# Altium integrated library Linear Technology Power Management Battery Management.IntLib: 626 symbols (part 49 of 56)
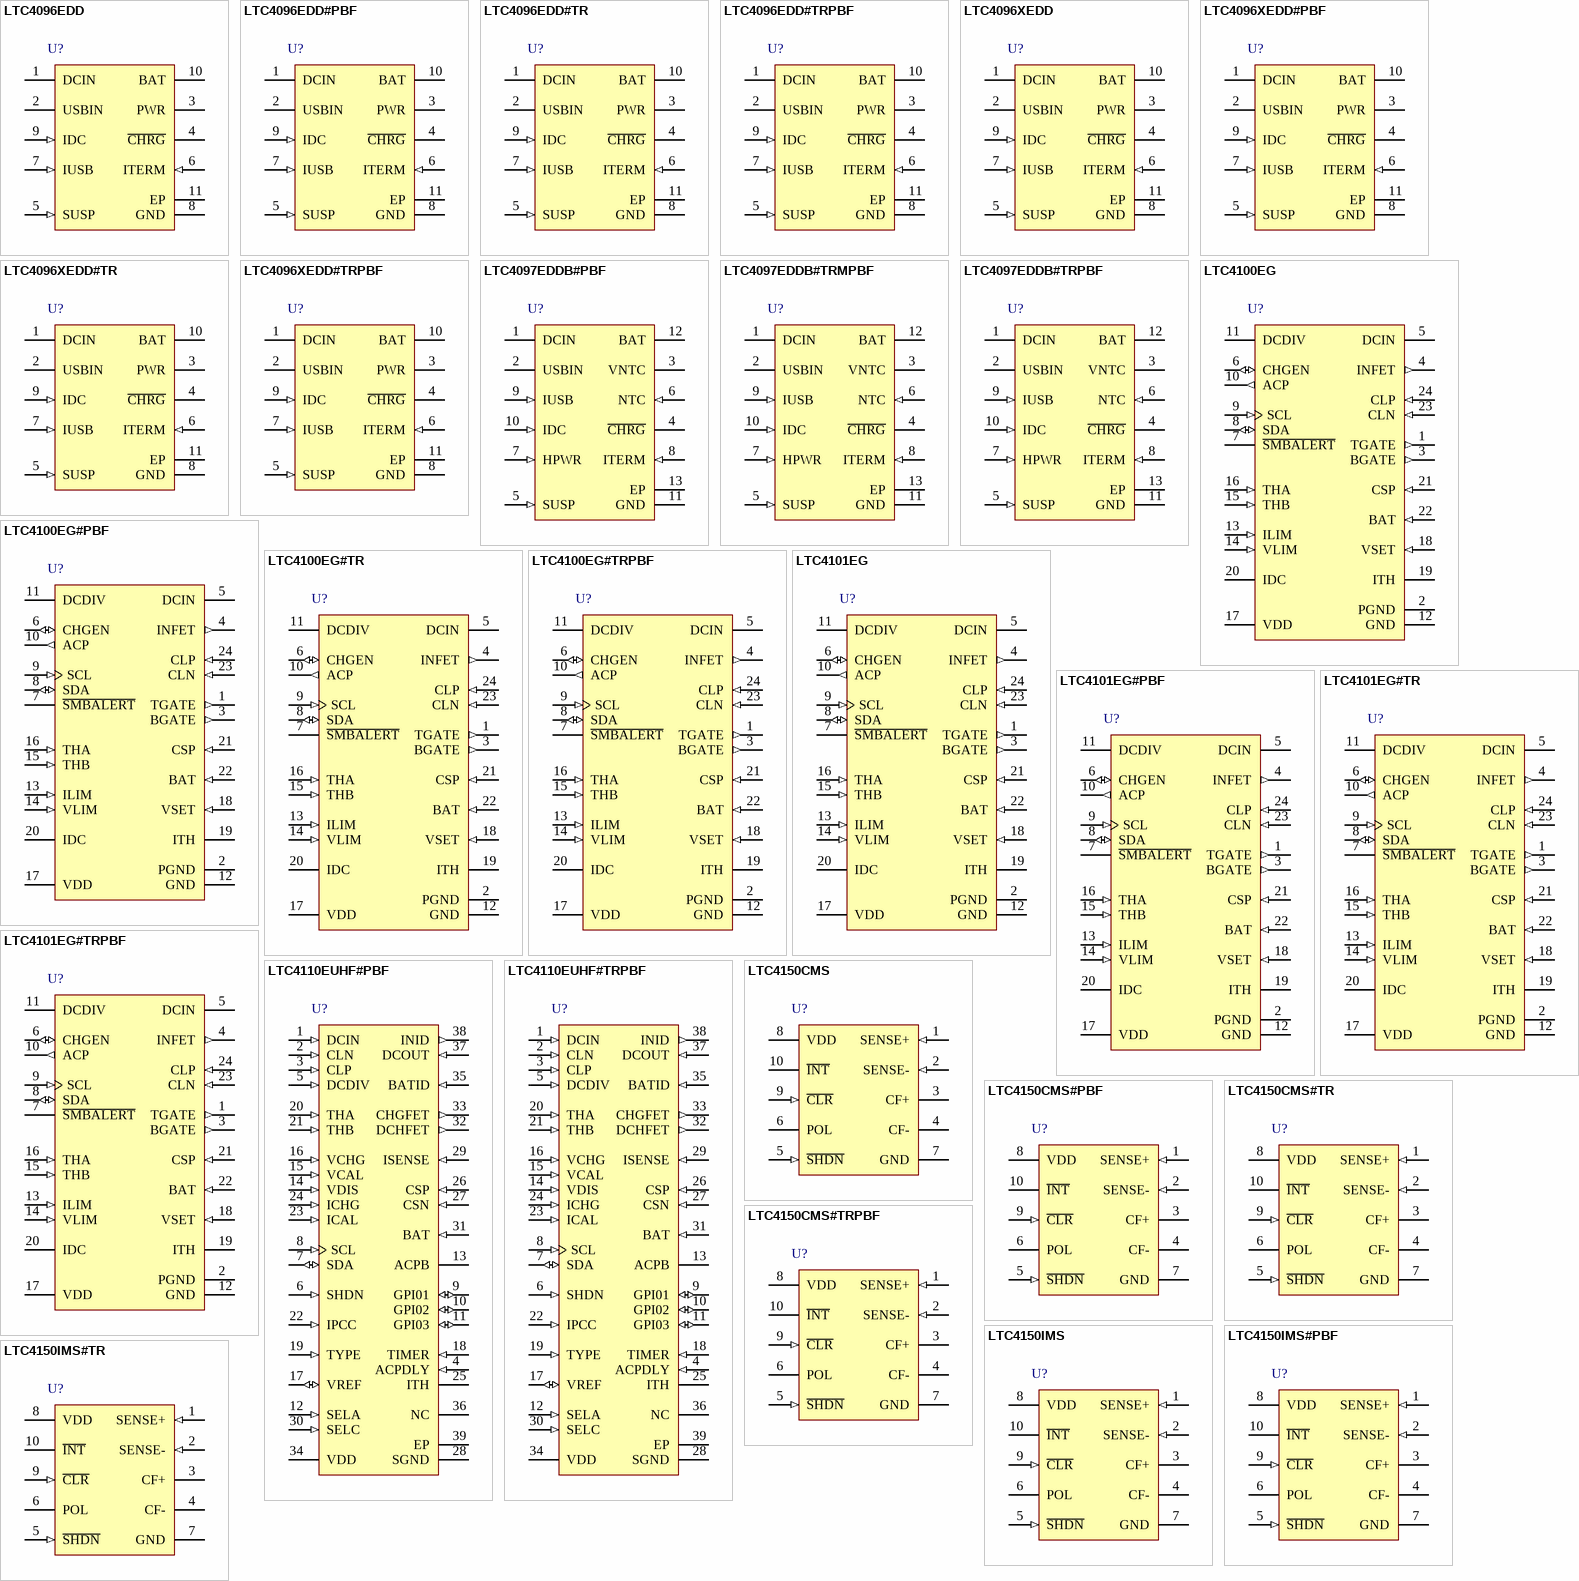
[diagram p70: symbols LTC4096EDD to LTC4150IMS#TR]

## LTC4110EUHF#TRPBF
designator U?
Battery Backup System Manager, 4.5 to 19 V Vin, 38-pin QFN (UHF-38), -40 to 85 degC, Pb-Free, Tape and Reel; Manufacturer: Linear Technology; PartNumber: LTC4110EUHF#TRPBF; Battery Chemistry: Li-Ion, Li-Polymer, Lead Acid, NiMH, NiCd; Charge Termination: C/10, Timer, Microcontroller; Float Voltage: Adj; Max Charge Current(A): 3; Number of Cells: 1-4 Li, up to 10 Ni, up to 6 SLA; Type of Charger: Switching; Vin Max(V): 19; Vin Min(V): 4.5; DatasheetVersion: Rev. B; PackageVersion: Rev. C, 06/2010; PackageReference: UHF-38; PackageDescription: 38-Pin Plastic QFN, Body 7 x 5 mm, Pitch 0.5 mm; Supplier 1: Digi-Key; Supplier Part Number 1: LTC4110EUHF#TRPBF-ND; Packing: Tape and Reel; RoHS: TRUE; Mounting Technology: Surface Mount; Code_JEDEC: MO-220; ComponentLink1Description: Manufacturer URL; ComponentLink1URL: http://www.linear.com/; ComponentLink2Description: Datasheet; ComponentLink2URL: http://cds.linear.com/docs/en/datasheet/4110fb.pdf; ComponentLink3Description: Package Specification; ComponentLink3URL: http://cds.linear.com/docs/en/packaging/QFN_38_05-08-1701.pdf
footprint LT-UHF-38_N (QFN, 38-Leads, Body 7.1x5.1mm, Pitch 0.5mm, Thermal Pad 3.15x5.15mm, IPC Medium Density)
footprint LT-UHF-38_L (QFN, 38-Leads, Body 7.1x5.1mm, Pitch 0.5mm, Thermal Pad 3.15x5.15mm, IPC High Density)
footprint LT-UHF-38_M (QFN, 38-Leads, Body 7.1x5.1mm, Pitch 0.5mm, Thermal Pad 3.15x5.15mm, IPC Low Density)
pins: 1 DCIN (in) "External DC Power Sense Input. Provides a control input and supply for the main supply ideal diode function.", 2 CLN (in) "Current Limit Sense Negative Input. See CLP pin.", 3 CLP (in) "Current Limit Sense Positive Input. This pin and the CLN pin form a differential input that senses voltage on an external resistor for reverse current entering the power source while in low loss calibration mode. Should the (See Datasheet)", 4 ACPDLY (in) "ACPb Delay Control Pin. A capacitor connected from ACPDLY to GND and a resistor from VREF to GND programs delay in the ACPb pin high-to-low transition. Open if minimum delay is desired.", 5 DCDIV (in) "AC Present Detection Input. Backup operation is invoked when the system power voltage, divided by an external resistor divider, falls below the threshold of this pin.", 6 SHDN (in) "Active High Shutdown/Reset Control Logic Input. Forces micropower shutdown mode if high when DCIN supply is removed. Forces all registers to reset if high when DCIN supply is present. Normally tied to ground. Internal pin (See Datasheet)", 7 SDA (io) "SMBus Bidirectional Data Signal. Connect to VDD when not in use.", 8 SCL (in) "SMBus Clock Signal Input From SMBus Host. Connect to VDD when not in use.", 9 GPI01 (io) "General Purpose I/O or Charge Status Pin. A logic-level I/O bit port that is configurable as a host-driven input/output port or as a battery charge status output (CHGb) with an open-drain N-MOSFET that is asserted low when (See Datasheet)", 10 GPI02 (io) "General Purpose I/O Pin. A logic-level I/O bit port that is configurable as a host-driven input/output port or as a battery undervoltage status output (BKUP_FLTb) with an open-drain N-MOSFET that is asserted low only while (See Datasheet)", 11 GPI03 (io) "General Purpose I/O Pin. A logic-level I/O bit port that is configurable as a host-driven input/output port or as a calibration complete status output (CAL_COMPLETEb) with an open-drain N-MOSFET that is asserted low when (See Datasheet)", 12 SELA (in) "SMBus Address Selection Input. Selects the LTC4110 SMBus address to facilitate redundant backup systems when standard batteries are used. Connect to GND for 12h, VDD for 28h and the VREF pin for 20h. When a smart battery is (See Datasheet)", 13 ACPB (oc) "AC Present Status Digital Output. Open-Drain N-MOSFET output is asserted low when the main supply is present as detected by the DCDIV pin and internal DCIN UVLO.", 14 VDIS (in) "Battery Discharge Voltage Limit During Backup Program Input. Battery threshold voltage at which backup mode will terminate by turning off the isolation P-MOSFET with the BATID pin. Adjustable from external resistor string (See Datasheet)", 15 VCAL (in) "Battery Voltage Limit During Calibration Program Input. Battery threshold voltage at which calibration will terminate. Adjustable from external resistor string biased from VREF pin. For default threshold connect to GND pin.", 16 VCHG (in) "Battery Float Voltage Program Input. Trims the float voltage during charging. Programmed from external resistor string biased from VREF pin. Connect to GND for default float voltage.", 17 VREF (io) "Voltage Reference Output and Timing Programming Input. Provides a typical virtual reference of 1.220V (VREF) for an external resistor divider tied between this pin and GND that programs the VCHG, VCAL and VDIS pin functions. (See Datasheet)", 18 TIMER (in) "Charge Timing Input. A capacitor connected between TIMER and GND along with the resistance connected from VREF to GND programs the charge time intervals.", 19 TYPE (in) "Refer to Table 8.", 20 THA (in) "Safety Signal Force/Sense Pin to Smart Battery and Force Pin to Lead Acid Battery Thermistor. See description of operation for more detail. The maximum allowed combined capacitance on THA, THB and Safety Signal is 1nF. For (See Datasheet)", 21 THB (in) "Safety Signal Force/Sense Pin to Smart Battery and Sense Pin to Lead Acid Battery Thermistor. See description of operation for more detail. The maximum allowed combined capacitance on THA, THB and Safety Signal is 1nF.", 22 IPCC (in) "Battery Preconditioning Charge Current Program Input. Programs the battery current during preconditioning or wakeup charging. Programmed from external resistor to GND.", 23 ICAL (in) "Battery Discharge Current During Calibration Program Input. Programs the constant discharge current at the battery during calibration. Programmed from external resistor to GND.", 24 ICHG (in) "Battery Current During Charge Program Input. Programs the battery current while constant-current bulk charging. Programmed from external resistor to GND.", 25 ITH "Control Signal of the Current Mode PWM. AC compensates control loop. Higher ITH voltage corresponds to higher charging current.", 26 CSP (in) "Current Sense Positive Input. This pin and the CSN pin measure voltage across the external current sense resistor to control battery current during charging and calibration.", 27 CSN (in) "Current Sense Negative Input. This pin and the CSP pin measure voltage across the external current sense resistor to control battery current during charging and calibration.", 28 SGND (power) "Signal Ground Reference Input. This pin should be Kelvin connected to the flyback current sense resistor and to the battery return.", 29 ISENSE (in) "Current Sense Input. Senses current in the flyback transformer by monitoring voltage across the external current sense resistor. This pin should be Kelvinconnected to the resistor.", 30 SELC (in) "Refer to Table 8.", 31 BAT (in) "Battery Voltage Sense Input. This pin is used to monitor the battery and control charging voltage through an internal resistor divider connected to this pin that is disconnected in shutdown mode. Also provides a control (See Datasheet)", 32 DCHFET (out) "Drives the Gate of an External N-MOSFET. Used to drive energy into the battery side of the high efficiency switch mode converter during low loss calibration discharge of the battery. Provides synchronous rectification during (See Datasheet)", 33 CHGFET (out) "Drives the Gate of an External N-MOSFET. Used to drive energy into the supply side of the high efficiency switch mode converter during battery charging. Provides synchronous rectification during low loss calibration mode.", 34 VDD (power) "Bypass Capacitor Connection for Internal VDD Regulator. Bypass at pin with 100nF low ESR capacitor to GND.", 35 BATID (in) "Drives the Gate of the Battery P-MOSFET Ideal Diode. Controls low loss ideal diode between the battery and backup load when in backup mode. When not in backup mode, the P-MOSFET is turned off to prevent battery power from (See Datasheet)", 36 NC "No Connect.", 37 DCOUT (in) "System Power Output Voltage Monitor Input. Provides a control input for supply input ideal diode and battery ideal diode functions. Also supplies power to the IC. Bypass at pin with 100nF low ESR capacitor to GND.", 38 INID (out) "Drives the Gate of the Supply Input P-MOSFET Ideal Diode. Controls low loss ideal diode between the supply input and backup load when not in backup mode.", 39 EP (power) "Ground. The Exposed Pad must be soldered to the PCB."

## LTC4150CMS
designator U?
Coulomb Counter / Battery Gas Gauge, 2.7 to 8.5 V Vin, 10-pin SOP (MS-10), 0 to 70 degC; Manufacturer: Linear Technology; PartNumber: LTC4150CMS; Battery Chemistry: Li-Ion, Li-Polymer, Lead Acid, NiMH, NiCd; Number of Cells: 1; Vin Max(V): 8.5; Vin Min(V): 2.7; DatasheetVersion: Rev. C; PackageVersion: Rev. E, 06/2010; PackageReference: MS-10; PackageDescription: 10-Pin Plastic MSOP, Body 3 x 3 mm, Pitch 0.5 mm; Supplier 1: Digi-Key; Supplier Part Number 1: LTC4150CMS-ND; RoHS: FALSE; Type of Charger: Gas Gauge; Mounting Technology: Surface Mount; ComponentLink1Description: Manufacturer URL; ComponentLink1URL: http://www.linear.com/; ComponentLink2Description: Datasheet; ComponentLink2URL: http://cds.linear.com/docs/en/datasheet/4150fc.pdf; ComponentLink3Description: Package Specification; ComponentLink3URL: http://cds.linear.com/docs/en/packaging/05081661_F_MS.pdf
footprint LT-MS-10_N (SOP, 10-Leads, Body 3.1x3.1mm, Pitch 0.5mm, IPC Medium Density)
footprint LT-MS-10_L (SOP, 10-Leads, Body 3.1x3.1mm, Pitch 0.5mm, IPC High Density)
footprint LT-MS-10_M (SOP, 10-Leads, Body 3.1x3.1mm, Pitch 0.5mm, IPC Low Density)
pins: 1 SENSE+ (in) "Positive Sense Input. This is the noninverting current sense input. Connect SENSE+ to the load and charger side of the sense resistor. Full-scale current sense input is 50mV. SENSE+ must be within 60mV of VDD for proper (See Datasheet)", 2 SENSE- (in) "Negative Sense Input. This is the inverting current sense input. Connect SENSE- to the positive battery terminal side of the sense resistor. Full-scale current sense input is 50mV. SENSE- must be within 60mV of VDD for (See Datasheet)", 3 CF+ "Filter Capacitor Positive Input. A capacitor connected between CF + and CF - filters and averages noise and fast battery current variations. A 4.7uF value is recommended. If filtering is not desired, leave CF + and CF - (See Datasheet)", 4 CF- "Filter Capacitor Negative Input. A capacitor connected between CF + and CF - filters and averages noise and fast battery current variations. A 4.7uF value is recommended. If filtering is not desired, leave CF + and CF - (See Datasheet)", 5 ~{SHDN} (in) "Shutdown Digital Input. When asserted low, S\H\D\N\ forces the LTC4150 into its low current consumption power-down mode and resets the part. In applications with logic supply VCC > VDD, a resistive divider must be used (See Datasheet)", 6 POL (hiz) "Battery Current Polarity Open-Drain Output. POL indicates the most recent battery current polarity when I\N\T\ is high. A low state indicates the current is fl owing out of the battery while high impedance means the current (See Datasheet)", 7 GND (power) "Ground. Connect directly to the negative battery terminal.", 8 VDD (power) "Positive Power Supply. Connect to the load and charger side of the sense resistor. SENSE+ also connects to VDD. VDD operating range is 2.7V to 8.5V. Bypass VDD with 4.7uF capacitor.", 9 ~{CLR} (in) "Clear Interrupt Digital Input. When asserted low for more than 20us, C\L\R\ resets I\N\T\ high. Charge counting is unaffected. I\N\T\ may be directly connected to C\L\R\. In this case the LTC4150 will capture each assertion (See Datasheet)", 10 ~{INT} (hiz) "Charge Count Interrupt Open-Drain Output. I\N\T\ latches low every 1/(VSENSE • GVF) seconds and is reset by a low pulse at C\L\R\. I\N\T\ is an open-drain output and can be pulled up to any logic supply of up to 9V. I(See Datasheet)"

## LTC4150CMS#PBF
designator U?
Coulomb Counter / Battery Gas Gauge, 2.7 to 8.5 V Vin, 10-pin SOP (MS-10), 0 to 70 degC, Pb-Free; Manufacturer: Linear Technology; PartNumber: LTC4150CMS#PBF; Battery Chemistry: Li-Ion, Li-Polymer, Lead Acid, NiMH, NiCd; Number of Cells: 1; Vin Max(V): 8.5; Vin Min(V): 2.7; DatasheetVersion: Rev. C; PackageVersion: Rev. E, 06/2010; PackageReference: MS-10; PackageDescription: 10-Pin Plastic MSOP, Body 3 x 3 mm, Pitch 0.5 mm; Supplier 1: Digi-Key; Supplier Part Number 1: LTC4150CMS#PBF-ND; Supplier 2: Farnell; Supplier Part Number 2: 1648053; Supplier 3: Newark; Supplier Part Number 3: 56M8728; RoHS: TRUE; Type of Charger: Gas Gauge; Mounting Technology: Surface Mount; ComponentLink1Description: Manufacturer URL; ComponentLink1URL: http://www.linear.com/; ComponentLink2Description: Datasheet; ComponentLink2URL: http://cds.linear.com/docs/en/datasheet/4150fc.pdf; ComponentLink3Description: Package Specification; ComponentLink3URL: http://cds.linear.com/docs/en/packaging/05081661_F_MS.pdf
footprint LT-MS-10_N (SOP, 10-Leads, Body 3.1x3.1mm, Pitch 0.5mm, IPC Medium Density)
footprint LT-MS-10_L (SOP, 10-Leads, Body 3.1x3.1mm, Pitch 0.5mm, IPC High Density)
footprint LT-MS-10_M (SOP, 10-Leads, Body 3.1x3.1mm, Pitch 0.5mm, IPC Low Density)
pins: 1 SENSE+ (in) "Positive Sense Input. This is the noninverting current sense input. Connect SENSE+ to the load and charger side of the sense resistor. Full-scale current sense input is 50mV. SENSE+ must be within 60mV of VDD for proper (See Datasheet)", 2 SENSE- (in) "Negative Sense Input. This is the inverting current sense input. Connect SENSE- to the positive battery terminal side of the sense resistor. Full-scale current sense input is 50mV. SENSE- must be within 60mV of VDD for (See Datasheet)", 3 CF+ "Filter Capacitor Positive Input. A capacitor connected between CF + and CF - filters and averages noise and fast battery current variations. A 4.7uF value is recommended. If filtering is not desired, leave CF + and CF - (See Datasheet)", 4 CF- "Filter Capacitor Negative Input. A capacitor connected between CF + and CF - filters and averages noise and fast battery current variations. A 4.7uF value is recommended. If filtering is not desired, leave CF + and CF - (See Datasheet)", 5 ~{SHDN} (in) "Shutdown Digital Input. When asserted low, S\H\D\N\ forces the LTC4150 into its low current consumption power-down mode and resets the part. In applications with logic supply VCC > VDD, a resistive divider must be used (See Datasheet)", 6 POL (hiz) "Battery Current Polarity Open-Drain Output. POL indicates the most recent battery current polarity when I\N\T\ is high. A low state indicates the current is fl owing out of the battery while high impedance means the current (See Datasheet)", 7 GND (power) "Ground. Connect directly to the negative battery terminal.", 8 VDD (power) "Positive Power Supply. Connect to the load and charger side of the sense resistor. SENSE+ also connects to VDD. VDD operating range is 2.7V to 8.5V. Bypass VDD with 4.7uF capacitor.", 9 ~{CLR} (in) "Clear Interrupt Digital Input. When asserted low for more than 20us, C\L\R\ resets I\N\T\ high. Charge counting is unaffected. I\N\T\ may be directly connected to C\L\R\. In this case the LTC4150 will capture each assertion (See Datasheet)", 10 ~{INT} (hiz) "Charge Count Interrupt Open-Drain Output. I\N\T\ latches low every 1/(VSENSE • GVF) seconds and is reset by a low pulse at C\L\R\. I\N\T\ is an open-drain output and can be pulled up to any logic supply of up to 9V. I(See Datasheet)"

## LTC4150CMS#TR
designator U?
Coulomb Counter / Battery Gas Gauge, 2.7 to 8.5 V Vin, 10-pin SOP (MS-10), 0 to 70 degC, Tape and Reel; Manufacturer: Linear Technology; PartNumber: LTC4150CMS#TR; Battery Chemistry: Li-Ion, Li-Polymer, Lead Acid, NiMH, NiCd; Number of Cells: 1; Vin Max(V): 8.5; Vin Min(V): 2.7; DatasheetVersion: Rev. C; PackageVersion: Rev. E, 06/2010; PackageReference: MS-10; PackageDescription: 10-Pin Plastic MSOP, Body 3 x 3 mm, Pitch 0.5 mm; Supplier 1: Digi-Key; Supplier Part Number 1: LTC4150CMS#TR-ND; Packing: Tape and Reel; RoHS: FALSE; Type of Charger: Gas Gauge; Mounting Technology: Surface Mount; ComponentLink1Description: Manufacturer URL; ComponentLink1URL: http://www.linear.com/; ComponentLink2Description: Datasheet; ComponentLink2URL: http://cds.linear.com/docs/en/datasheet/4150fc.pdf; ComponentLink3Description: Package Specification; ComponentLink3URL: http://cds.linear.com/docs/en/packaging/05081661_F_MS.pdf
footprint LT-MS-10_N (SOP, 10-Leads, Body 3.1x3.1mm, Pitch 0.5mm, IPC Medium Density)
footprint LT-MS-10_L (SOP, 10-Leads, Body 3.1x3.1mm, Pitch 0.5mm, IPC High Density)
footprint LT-MS-10_M (SOP, 10-Leads, Body 3.1x3.1mm, Pitch 0.5mm, IPC Low Density)
pins: 1 SENSE+ (in) "Positive Sense Input. This is the noninverting current sense input. Connect SENSE+ to the load and charger side of the sense resistor. Full-scale current sense input is 50mV. SENSE+ must be within 60mV of VDD for proper (See Datasheet)", 2 SENSE- (in) "Negative Sense Input. This is the inverting current sense input. Connect SENSE- to the positive battery terminal side of the sense resistor. Full-scale current sense input is 50mV. SENSE- must be within 60mV of VDD for (See Datasheet)", 3 CF+ "Filter Capacitor Positive Input. A capacitor connected between CF + and CF - filters and averages noise and fast battery current variations. A 4.7uF value is recommended. If filtering is not desired, leave CF + and CF - (See Datasheet)", 4 CF- "Filter Capacitor Negative Input. A capacitor connected between CF + and CF - filters and averages noise and fast battery current variations. A 4.7uF value is recommended. If filtering is not desired, leave CF + and CF - (See Datasheet)", 5 ~{SHDN} (in) "Shutdown Digital Input. When asserted low, S\H\D\N\ forces the LTC4150 into its low current consumption power-down mode and resets the part. In applications with logic supply VCC > VDD, a resistive divider must be used (See Datasheet)", 6 POL (hiz) "Battery Current Polarity Open-Drain Output. POL indicates the most recent battery current polarity when I\N\T\ is high. A low state indicates the current is fl owing out of the battery while high impedance means the current (See Datasheet)", 7 GND (power) "Ground. Connect directly to the negative battery terminal.", 8 VDD (power) "Positive Power Supply. Connect to the load and charger side of the sense resistor. SENSE+ also connects to VDD. VDD operating range is 2.7V to 8.5V. Bypass VDD with 4.7uF capacitor.", 9 ~{CLR} (in) "Clear Interrupt Digital Input. When asserted low for more than 20us, C\L\R\ resets I\N\T\ high. Charge counting is unaffected. I\N\T\ may be directly connected to C\L\R\. In this case the LTC4150 will capture each assertion (See Datasheet)", 10 ~{INT} (hiz) "Charge Count Interrupt Open-Drain Output. I\N\T\ latches low every 1/(VSENSE • GVF) seconds and is reset by a low pulse at C\L\R\. I\N\T\ is an open-drain output and can be pulled up to any logic supply of up to 9V. I(See Datasheet)"

## LTC4150CMS#TRPBF
designator U?
Coulomb Counter / Battery Gas Gauge, 2.7 to 8.5 V Vin, 10-pin SOP (MS-10), 0 to 70 degC, Pb-Free, Tape and Reel; Manufacturer: Linear Technology; PartNumber: LTC4150CMS#TRPBF; Battery Chemistry: Li-Ion, Li-Polymer, Lead Acid, NiMH, NiCd; Number of Cells: 1; Vin Max(V): 8.5; Vin Min(V): 2.7; DatasheetVersion: Rev. C; PackageVersion: Rev. E, 06/2010; PackageReference: MS-10; PackageDescription: 10-Pin Plastic MSOP, Body 3 x 3 mm, Pitch 0.5 mm; Supplier 1: Digi-Key; Supplier Part Number 1: LTC4150CMS#TRPBF-ND; Supplier 2: Newark; Supplier Part Number 2: 56M8730; Packing: Tape and Reel; RoHS: TRUE; Type of Charger: Gas Gauge; Mounting Technology: Surface Mount; ComponentLink1Description: Manufacturer URL; ComponentLink1URL: http://www.linear.com/; ComponentLink2Description: Datasheet; ComponentLink2URL: http://cds.linear.com/docs/en/datasheet/4150fc.pdf; ComponentLink3Description: Package Specification; ComponentLink3URL: http://cds.linear.com/docs/en/packaging/05081661_F_MS.pdf
footprint LT-MS-10_N (SOP, 10-Leads, Body 3.1x3.1mm, Pitch 0.5mm, IPC Medium Density)
footprint LT-MS-10_L (SOP, 10-Leads, Body 3.1x3.1mm, Pitch 0.5mm, IPC High Density)
footprint LT-MS-10_M (SOP, 10-Leads, Body 3.1x3.1mm, Pitch 0.5mm, IPC Low Density)
pins: 1 SENSE+ (in) "Positive Sense Input. This is the noninverting current sense input. Connect SENSE+ to the load and charger side of the sense resistor. Full-scale current sense input is 50mV. SENSE+ must be within 60mV of VDD for proper (See Datasheet)", 2 SENSE- (in) "Negative Sense Input. This is the inverting current sense input. Connect SENSE- to the positive battery terminal side of the sense resistor. Full-scale current sense input is 50mV. SENSE- must be within 60mV of VDD for (See Datasheet)", 3 CF+ "Filter Capacitor Positive Input. A capacitor connected between CF + and CF - filters and averages noise and fast battery current variations. A 4.7uF value is recommended. If filtering is not desired, leave CF + and CF - (See Datasheet)", 4 CF- "Filter Capacitor Negative Input. A capacitor connected between CF + and CF - filters and averages noise and fast battery current variations. A 4.7uF value is recommended. If filtering is not desired, leave CF + and CF - (See Datasheet)", 5 ~{SHDN} (in) "Shutdown Digital Input. When asserted low, S\H\D\N\ forces the LTC4150 into its low current consumption power-down mode and resets the part. In applications with logic supply VCC > VDD, a resistive divider must be used (See Datasheet)", 6 POL (hiz) "Battery Current Polarity Open-Drain Output. POL indicates the most recent battery current polarity when I\N\T\ is high. A low state indicates the current is fl owing out of the battery while high impedance means the current (See Datasheet)", 7 GND (power) "Ground. Connect directly to the negative battery terminal.", 8 VDD (power) "Positive Power Supply. Connect to the load and charger side of the sense resistor. SENSE+ also connects to VDD. VDD operating range is 2.7V to 8.5V. Bypass VDD with 4.7uF capacitor.", 9 ~{CLR} (in) "Clear Interrupt Digital Input. When asserted low for more than 20us, C\L\R\ resets I\N\T\ high. Charge counting is unaffected. I\N\T\ may be directly connected to C\L\R\. In this case the LTC4150 will capture each assertion (See Datasheet)", 10 ~{INT} (hiz) "Charge Count Interrupt Open-Drain Output. I\N\T\ latches low every 1/(VSENSE • GVF) seconds and is reset by a low pulse at C\L\R\. I\N\T\ is an open-drain output and can be pulled up to any logic supply of up to 9V. I(See Datasheet)"

## LTC4150IMS
designator U?
Coulomb Counter / Battery Gas Gauge, 2.7 to 8.5 V Vin, 10-pin SOP (MS-10), -40 to 85 degC; Manufacturer: Linear Technology; PartNumber: LTC4150IMS; Battery Chemistry: Li-Ion, Li-Polymer, Lead Acid, NiMH, NiCd; Number of Cells: 1; Vin Max(V): 8.5; Vin Min(V): 2.7; DatasheetVersion: Rev. C; PackageVersion: Rev. E, 06/2010; PackageReference: MS-10; PackageDescription: 10-Pin Plastic MSOP, Body 3 x 3 mm, Pitch 0.5 mm; Supplier 1: Digi-Key; Supplier Part Number 1: LTC4150IMS-ND; RoHS: FALSE; Type of Charger: Gas Gauge; Mounting Technology: Surface Mount; ComponentLink1Description: Manufacturer URL; ComponentLink1URL: http://www.linear.com/; ComponentLink2Description: Datasheet; ComponentLink2URL: http://cds.linear.com/docs/en/datasheet/4150fc.pdf; ComponentLink3Description: Package Specification; ComponentLink3URL: http://cds.linear.com/docs/en/packaging/05081661_F_MS.pdf
footprint LT-MS-10_N (SOP, 10-Leads, Body 3.1x3.1mm, Pitch 0.5mm, IPC Medium Density)
footprint LT-MS-10_L (SOP, 10-Leads, Body 3.1x3.1mm, Pitch 0.5mm, IPC High Density)
footprint LT-MS-10_M (SOP, 10-Leads, Body 3.1x3.1mm, Pitch 0.5mm, IPC Low Density)
pins: 1 SENSE+ (in) "Positive Sense Input. This is the noninverting current sense input. Connect SENSE+ to the load and charger side of the sense resistor. Full-scale current sense input is 50mV. SENSE+ must be within 60mV of VDD for proper (See Datasheet)", 2 SENSE- (in) "Negative Sense Input. This is the inverting current sense input. Connect SENSE- to the positive battery terminal side of the sense resistor. Full-scale current sense input is 50mV. SENSE- must be within 60mV of VDD for (See Datasheet)", 3 CF+ "Filter Capacitor Positive Input. A capacitor connected between CF + and CF - filters and averages noise and fast battery current variations. A 4.7uF value is recommended. If filtering is not desired, leave CF + and CF - (See Datasheet)", 4 CF- "Filter Capacitor Negative Input. A capacitor connected between CF + and CF - filters and averages noise and fast battery current variations. A 4.7uF value is recommended. If filtering is not desired, leave CF + and CF - (See Datasheet)", 5 ~{SHDN} (in) "Shutdown Digital Input. When asserted low, S\H\D\N\ forces the LTC4150 into its low current consumption power-down mode and resets the part. In applications with logic supply VCC > VDD, a resistive divider must be used (See Datasheet)", 6 POL (hiz) "Battery Current Polarity Open-Drain Output. POL indicates the most recent battery current polarity when I\N\T\ is high. A low state indicates the current is fl owing out of the battery while high impedance means the current (See Datasheet)", 7 GND (power) "Ground. Connect directly to the negative battery terminal.", 8 VDD (power) "Positive Power Supply. Connect to the load and charger side of the sense resistor. SENSE+ also connects to VDD. VDD operating range is 2.7V to 8.5V. Bypass VDD with 4.7uF capacitor.", 9 ~{CLR} (in) "Clear Interrupt Digital Input. When asserted low for more than 20us, C\L\R\ resets I\N\T\ high. Charge counting is unaffected. I\N\T\ may be directly connected to C\L\R\. In this case the LTC4150 will capture each assertion (See Datasheet)", 10 ~{INT} (hiz) "Charge Count Interrupt Open-Drain Output. I\N\T\ latches low every 1/(VSENSE • GVF) seconds and is reset by a low pulse at C\L\R\. I\N\T\ is an open-drain output and can be pulled up to any logic supply of up to 9V. I(See Datasheet)"

## LTC4150IMS#PBF
designator U?
Coulomb Counter / Battery Gas Gauge, 2.7 to 8.5 V Vin, 10-pin SOP (MS-10), -40 to 85 degC, Pb-Free; Manufacturer: Linear Technology; PartNumber: LTC4150IMS#PBF; Battery Chemistry: Li-Ion, Li-Polymer, Lead Acid, NiMH, NiCd; Number of Cells: 1; Vin Max(V): 8.5; Vin Min(V): 2.7; DatasheetVersion: Rev. C; PackageVersion: Rev. E, 06/2010; PackageReference: MS-10; PackageDescription: 10-Pin Plastic MSOP, Body 3 x 3 mm, Pitch 0.5 mm; Supplier 1: Digi-Key; Supplier Part Number 1: LTC4150IMS#PBF-ND; Supplier 2: Newark; Supplier Part Number 2: 56M8732; RoHS: TRUE; Type of Charger: Gas Gauge; Mounting Technology: Surface Mount; ComponentLink1Description: Manufacturer URL; ComponentLink1URL: http://www.linear.com/; ComponentLink2Description: Datasheet; ComponentLink2URL: http://cds.linear.com/docs/en/datasheet/4150fc.pdf; ComponentLink3Description: Package Specification; ComponentLink3URL: http://cds.linear.com/docs/en/packaging/05081661_F_MS.pdf
footprint LT-MS-10_N (SOP, 10-Leads, Body 3.1x3.1mm, Pitch 0.5mm, IPC Medium Density)
footprint LT-MS-10_L (SOP, 10-Leads, Body 3.1x3.1mm, Pitch 0.5mm, IPC High Density)
footprint LT-MS-10_M (SOP, 10-Leads, Body 3.1x3.1mm, Pitch 0.5mm, IPC Low Density)
pins: 1 SENSE+ (in) "Positive Sense Input. This is the noninverting current sense input. Connect SENSE+ to the load and charger side of the sense resistor. Full-scale current sense input is 50mV. SENSE+ must be within 60mV of VDD for proper (See Datasheet)", 2 SENSE- (in) "Negative Sense Input. This is the inverting current sense input. Connect SENSE- to the positive battery terminal side of the sense resistor. Full-scale current sense input is 50mV. SENSE- must be within 60mV of VDD for (See Datasheet)", 3 CF+ "Filter Capacitor Positive Input. A capacitor connected between CF + and CF - filters and averages noise and fast battery current variations. A 4.7uF value is recommended. If filtering is not desired, leave CF + and CF - (See Datasheet)", 4 CF- "Filter Capacitor Negative Input. A capacitor connected between CF + and CF - filters and averages noise and fast battery current variations. A 4.7uF value is recommended. If filtering is not desired, leave CF + and CF - (See Datasheet)", 5 ~{SHDN} (in) "Shutdown Digital Input. When asserted low, S\H\D\N\ forces the LTC4150 into its low current consumption power-down mode and resets the part. In applications with logic supply VCC > VDD, a resistive divider must be used (See Datasheet)", 6 POL (hiz) "Battery Current Polarity Open-Drain Output. POL indicates the most recent battery current polarity when I\N\T\ is high. A low state indicates the current is fl owing out of the battery while high impedance means the current (See Datasheet)", 7 GND (power) "Ground. Connect directly to the negative battery terminal.", 8 VDD (power) "Positive Power Supply. Connect to the load and charger side of the sense resistor. SENSE+ also connects to VDD. VDD operating range is 2.7V to 8.5V. Bypass VDD with 4.7uF capacitor.", 9 ~{CLR} (in) "Clear Interrupt Digital Input. When asserted low for more than 20us, C\L\R\ resets I\N\T\ high. Charge counting is unaffected. I\N\T\ may be directly connected to C\L\R\. In this case the LTC4150 will capture each assertion (See Datasheet)", 10 ~{INT} (hiz) "Charge Count Interrupt Open-Drain Output. I\N\T\ latches low every 1/(VSENSE • GVF) seconds and is reset by a low pulse at C\L\R\. I\N\T\ is an open-drain output and can be pulled up to any logic supply of up to 9V. I(See Datasheet)"

## LTC4150IMS#TR
designator U?
Coulomb Counter / Battery Gas Gauge, 2.7 to 8.5 V Vin, 10-pin SOP (MS-10), -40 to 85 degC, Tape and Reel; Manufacturer: Linear Technology; PartNumber: LTC4150IMS#TR; Battery Chemistry: Li-Ion, Li-Polymer, Lead Acid, NiMH, NiCd; Number of Cells: 1; Vin Max(V): 8.5; Vin Min(V): 2.7; DatasheetVersion: Rev. C; PackageVersion: Rev. E, 06/2010; PackageReference: MS-10; PackageDescription: 10-Pin Plastic MSOP, Body 3 x 3 mm, Pitch 0.5 mm; Supplier 1: Digi-Key; Supplier Part Number 1: LTC4150IMS#TR-ND; Packing: Tape and Reel; RoHS: FALSE; Type of Charger: Gas Gauge; Mounting Technology: Surface Mount; ComponentLink1Description: Manufacturer URL; ComponentLink1URL: http://www.linear.com/; ComponentLink2Description: Datasheet; ComponentLink2URL: http://cds.linear.com/docs/en/datasheet/4150fc.pdf; ComponentLink3Description: Package Specification; ComponentLink3URL: http://cds.linear.com/docs/en/packaging/05081661_F_MS.pdf
footprint LT-MS-10_N (SOP, 10-Leads, Body 3.1x3.1mm, Pitch 0.5mm, IPC Medium Density)
footprint LT-MS-10_L (SOP, 10-Leads, Body 3.1x3.1mm, Pitch 0.5mm, IPC High Density)
footprint LT-MS-10_M (SOP, 10-Leads, Body 3.1x3.1mm, Pitch 0.5mm, IPC Low Density)
pins: 1 SENSE+ (in) "Positive Sense Input. This is the noninverting current sense input. Connect SENSE+ to the load and charger side of the sense resistor. Full-scale current sense input is 50mV. SENSE+ must be within 60mV of VDD for proper (See Datasheet)", 2 SENSE- (in) "Negative Sense Input. This is the inverting current sense input. Connect SENSE- to the positive battery terminal side of the sense resistor. Full-scale current sense input is 50mV. SENSE- must be within 60mV of VDD for (See Datasheet)", 3 CF+ "Filter Capacitor Positive Input. A capacitor connected between CF + and CF - filters and averages noise and fast battery current variations. A 4.7uF value is recommended. If filtering is not desired, leave CF + and CF - (See Datasheet)", 4 CF- "Filter Capacitor Negative Input. A capacitor connected between CF + and CF - filters and averages noise and fast battery current variations. A 4.7uF value is recommended. If filtering is not desired, leave CF + and CF - (See Datasheet)", 5 ~{SHDN} (in) "Shutdown Digital Input. When asserted low, S\H\D\N\ forces the LTC4150 into its low current consumption power-down mode and resets the part. In applications with logic supply VCC > VDD, a resistive divider must be used (See Datasheet)", 6 POL (hiz) "Battery Current Polarity Open-Drain Output. POL indicates the most recent battery current polarity when I\N\T\ is high. A low state indicates the current is fl owing out of the battery while high impedance means the current (See Datasheet)", 7 GND (power) "Ground. Connect directly to the negative battery terminal.", 8 VDD (power) "Positive Power Supply. Connect to the load and charger side of the sense resistor. SENSE+ also connects to VDD. VDD operating range is 2.7V to 8.5V. Bypass VDD with 4.7uF capacitor.", 9 ~{CLR} (in) "Clear Interrupt Digital Input. When asserted low for more than 20us, C\L\R\ resets I\N\T\ high. Charge counting is unaffected. I\N\T\ may be directly connected to C\L\R\. In this case the LTC4150 will capture each assertion (See Datasheet)", 10 ~{INT} (hiz) "Charge Count Interrupt Open-Drain Output. I\N\T\ latches low every 1/(VSENSE • GVF) seconds and is reset by a low pulse at C\L\R\. I\N\T\ is an open-drain output and can be pulled up to any logic supply of up to 9V. I(See Datasheet)"

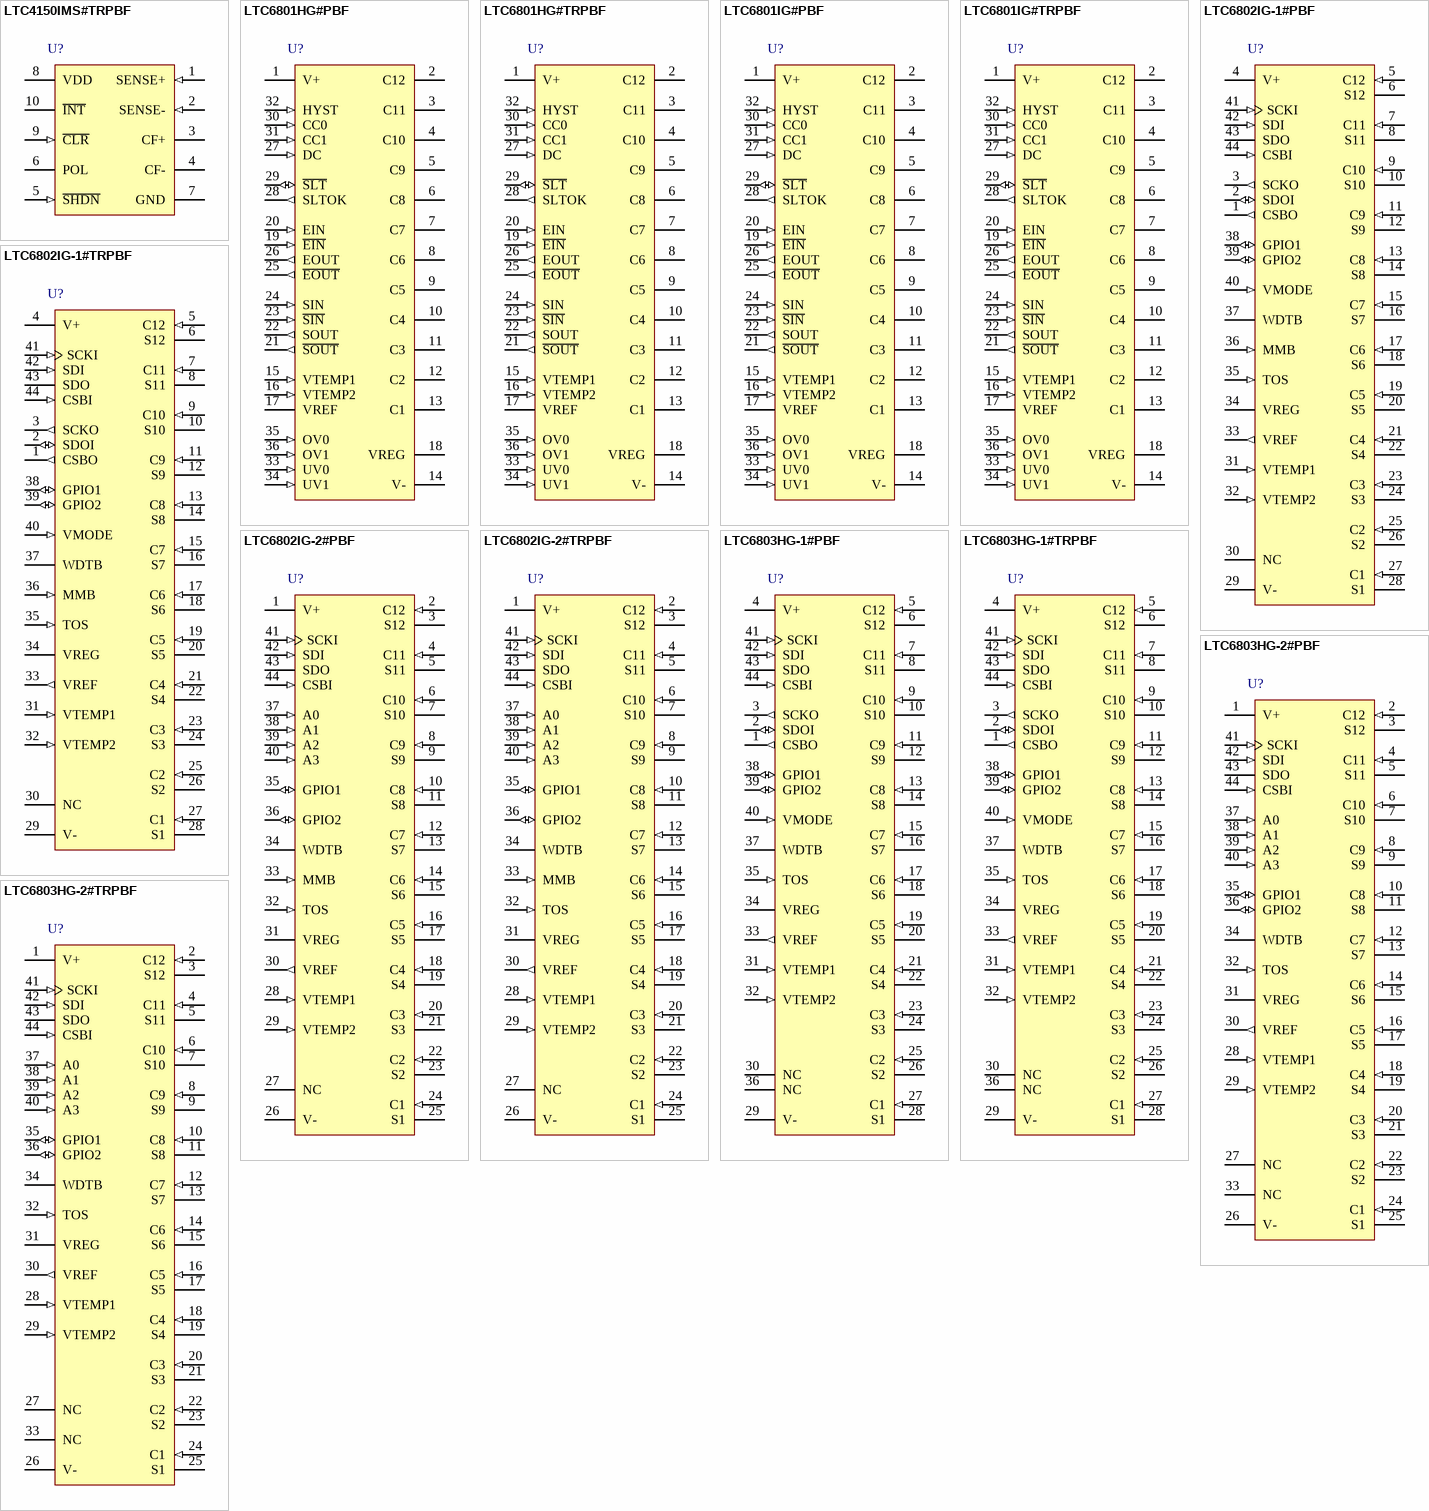
[diagram p20: symbols LTC4150IMS#TRPBF to LTC6803HG-2#TRPBF]

## LTC4150IMS#TRPBF
designator U?
Coulomb Counter / Battery Gas Gauge, 2.7 to 8.5 V Vin, 10-pin SOP (MS-10), -40 to 85 degC, Pb-Free, Tape and Reel; Manufacturer: Linear Technology; PartNumber: LTC4150IMS#TRPBF; Battery Chemistry: Li-Ion, Li-Polymer, Lead Acid, NiMH, NiCd; Number of Cells: 1; Vin Max(V): 8.5; Vin Min(V): 2.7; DatasheetVersion: Rev. C; PackageVersion: Rev. E, 06/2010; PackageReference: MS-10; PackageDescription: 10-Pin Plastic MSOP, Body 3 x 3 mm, Pitch 0.5 mm; Supplier 1: Digi-Key; Supplier Part Number 1: LTC4150IMS#TRPBF-ND; Packing: Tape and Reel; RoHS: TRUE; Type of Charger: Gas Gauge; Mounting Technology: Surface Mount; ComponentLink1Description: Manufacturer URL; ComponentLink1URL: http://www.linear.com/; ComponentLink2Description: Datasheet; ComponentLink2URL: http://cds.linear.com/docs/en/datasheet/4150fc.pdf; ComponentLink3Description: Package Specification; ComponentLink3URL: http://cds.linear.com/docs/en/packaging/05081661_F_MS.pdf
footprint LT-MS-10_N (SOP, 10-Leads, Body 3.1x3.1mm, Pitch 0.5mm, IPC Medium Density)
footprint LT-MS-10_L (SOP, 10-Leads, Body 3.1x3.1mm, Pitch 0.5mm, IPC High Density)
footprint LT-MS-10_M (SOP, 10-Leads, Body 3.1x3.1mm, Pitch 0.5mm, IPC Low Density)
pins: 1 SENSE+ (in) "Positive Sense Input. This is the noninverting current sense input. Connect SENSE+ to the load and charger side of the sense resistor. Full-scale current sense input is 50mV. SENSE+ must be within 60mV of VDD for proper (See Datasheet)", 2 SENSE- (in) "Negative Sense Input. This is the inverting current sense input. Connect SENSE- to the positive battery terminal side of the sense resistor. Full-scale current sense input is 50mV. SENSE- must be within 60mV of VDD for (See Datasheet)", 3 CF+ "Filter Capacitor Positive Input. A capacitor connected between CF + and CF - filters and averages noise and fast battery current variations. A 4.7uF value is recommended. If filtering is not desired, leave CF + and CF - (See Datasheet)", 4 CF- "Filter Capacitor Negative Input. A capacitor connected between CF + and CF - filters and averages noise and fast battery current variations. A 4.7uF value is recommended. If filtering is not desired, leave CF + and CF - (See Datasheet)", 5 ~{SHDN} (in) "Shutdown Digital Input. When asserted low, S\H\D\N\ forces the LTC4150 into its low current consumption power-down mode and resets the part. In applications with logic supply VCC > VDD, a resistive divider must be used (See Datasheet)", 6 POL (hiz) "Battery Current Polarity Open-Drain Output. POL indicates the most recent battery current polarity when I\N\T\ is high. A low state indicates the current is fl owing out of the battery while high impedance means the current (See Datasheet)", 7 GND (power) "Ground. Connect directly to the negative battery terminal.", 8 VDD (power) "Positive Power Supply. Connect to the load and charger side of the sense resistor. SENSE+ also connects to VDD. VDD operating range is 2.7V to 8.5V. Bypass VDD with 4.7uF capacitor.", 9 ~{CLR} (in) "Clear Interrupt Digital Input. When asserted low for more than 20us, C\L\R\ resets I\N\T\ high. Charge counting is unaffected. I\N\T\ may be directly connected to C\L\R\. In this case the LTC4150 will capture each assertion (See Datasheet)", 10 ~{INT} (hiz) "Charge Count Interrupt Open-Drain Output. I\N\T\ latches low every 1/(VSENSE • GVF) seconds and is reset by a low pulse at C\L\R\. I\N\T\ is an open-drain output and can be pulled up to any logic supply of up to 9V. I(See Datasheet)"

## LTC6801HG#PBF
designator U?
Independent Multicell Battery Stack Fault Monitor, 10 to 50 V Vin, 36-pin SOP (G-36), -40 to 125 degC, Pb-Free; Manufacturer: Linear Technology; PartNumber: LTC6801HG#PBF; Battery Chemistry: Li-Ion; Number of Cells: 12; Type of Charger: Battery Stack Monitor; Vin Max(V): 50; Vin Min(V): 10; DatasheetVersion: Rev. B; PackageReference: G-36; PackageDescription: 36-Pin Plastic SSOP, Body 12.8 x 5.3 mm, Pitch 0.65 mm; Supplier 1: Digi-Key; Supplier Part Number 1: LTC6801HG#PBF-ND; Supplier 2: Farnell; Supplier Part Number 2: 1839115; RoHS: TRUE; Mounting Technology: Surface Mount; ComponentLink1Description: Manufacturer URL; ComponentLink1URL: http://www.linear.com/; ComponentLink2Description: Datasheet; ComponentLink2URL: http://cds.linear.com/docs/en/datasheet/6801fb.pdf; ComponentLink3Description: Package Specification; ComponentLink3URL: http://cds.linear.com/docs/en/packaging/SSOP_36_05-08-1640.pdf
footprint LT-G-36_N (SOP, 36-Leads, Body 13.1x5.6mm, Pitch 0.65mm, IPC Medium Density)
footprint LT-G-36_L (SOP, 36-Leads, Body 13.1x5.6mm, Pitch 0.65mm, IPC High Density)
footprint LT-G-36_M (SOP, 36-Leads, Body 13.1x5.6mm, Pitch 0.65mm, IPC Low Density)
pins: 1 V+ (power) "Supply Voltage. Tied to the most positive potential in the battery stack. For example, the same potential as C12 when measuring a stack of 12 cells, or the same potential as C7 when measuring a stack of 7 cells.", 2 C12 (power) "Cell Voltage input. Up to 12 cells can be monitored. The lowest potential is tied to V-. The next lowest potential is tied to C1 and so forth. Due to internal overvoltage protection, each C input must be tied to a potential (See Datasheet)", 3 C11 (power) "Cell Voltage input. Up to 12 cells can be monitored. The lowest potential is tied to V-. The next lowest potential is tied to C1 and so forth. Due to internal overvoltage protection, each C input must be tied to a potential (See Datasheet)", 4 C10 (power) "Cell Voltage input. Up to 12 cells can be monitored. The lowest potential is tied to V-. The next lowest potential is tied to C1 and so forth. Due to internal overvoltage protection, each C input must be tied to a potential (See Datasheet)", 5 C9 (power) "Cell Voltage input. Up to 12 cells can be monitored. The lowest potential is tied to V-. The next lowest potential is tied to C1 and so forth. Due to internal overvoltage protection, each C input must be tied to a potential (See Datasheet)", 6 C8 (power) "Cell Voltage input. Up to 12 cells can be monitored. The lowest potential is tied to V-. The next lowest potential is tied to C1 and so forth. Due to internal overvoltage protection, each C input must be tied to a potential (See Datasheet)", 7 C7 (power) "Cell Voltage input. Up to 12 cells can be monitored. The lowest potential is tied to V-. The next lowest potential is tied to C1 and so forth. Due to internal overvoltage protection, each C input must be tied to a potential (See Datasheet)", 8 C6 (power) "Cell Voltage input. Up to 12 cells can be monitored. The lowest potential is tied to V-. The next lowest potential is tied to C1 and so forth. Due to internal overvoltage protection, each C input must be tied to a potential (See Datasheet)", 9 C5 (power) "Cell Voltage input. Up to 12 cells can be monitored. The lowest potential is tied to V-. The next lowest potential is tied to C1 and so forth. Due to internal overvoltage protection, each C input must be tied to a potential (See Datasheet)", 10 C4 (power) "Cell Voltage input. Up to 12 cells can be monitored. The lowest potential is tied to V-. The next lowest potential is tied to C1 and so forth. Due to internal overvoltage protection, each C input must be tied to a potential (See Datasheet)", 11 C3 (power) "Cell Voltage input. Up to 12 cells can be monitored. The lowest potential is tied to V-. The next lowest potential is tied to C1 and so forth. Due to internal overvoltage protection, each C input must be tied to a potential (See Datasheet)", 12 C2 (power) "Cell Voltage input. Up to 12 cells can be monitored. The lowest potential is tied to V-. The next lowest potential is tied to C1 and so forth. Due to internal overvoltage protection, each C input must be tied to a potential (See Datasheet)", 13 C1 (power) "Cell Voltage input. Up to 12 cells can be monitored. The lowest potential is tied to V-. The next lowest potential is tied to C1 and so forth. Due to internal overvoltage protection, each C input must be tied to a potential (See Datasheet)", 14 V- (power) "Tied to the most negative cell potential (bottom of monitored cell stack).", 15 VTEMP1 (in) "Temperature Sensor input. The ADC will measure the voltages on VTEMP1 and VTEMP2 relative to V-. The ADC measurements are referenced to the VREF pin voltage. Therefore a simple thermistor and resistor combination connected (See Datasheet)", 16 VTEMP2 (in) "Temperature Sensor input. The ADC will measure the voltages on VTEMP1 and VTEMP2 relative to V-. The ADC measurements are referenced to the VREF pin voltage. Therefore a simple thermistor and resistor combination connected (See Datasheet)", 17 VREF (hiz) "Reference Output, Nominally 3.058V. Requires a 1uF bypass capacitor to V-. The VREF pin can drive a 100k resistive load connected to V-. VREF must be buffered with an LT6003 amplifier, or similar device to drive heavier (See Datasheet)", 18 VREG (power) "Regulator Output, Nominally 5V. Requires a 1uF bypass capacitor to V-. The VREG pin is capable of supplying up to 4mA to an external load and is continually enabled.", 19 ~{EIN} (in) "Differential Enable Input. A clock signal greater than 2kHz will enable the LTC6801. For operation with a single-ended enable signal (up to 10kHz), drive EIN and connect a 1nF capacitor from E\I\N\ to V-.", 20 EIN (in) "Differential Enable Input. A clock signal greater than 2kHz will enable the LTC6801. For operation with a single-ended enable signal (up to 10kHz), drive EIN and connect a 1nF capacitor from E\I\N\ to V-.", 21 ~{SOUT} (out) "Differential Status Output. Swings V- to VREG. This output will toggle at the same frequency as EIN/E\I\N\ when a valid signal is detected at SIN/S\I\N\ and the battery stack being monitored is within specified parameters, (See Datasheet)", 22 SOUT (out) "Differential Status Output. Swings V- to VREG. This output will toggle at the same frequency as EIN/E\I\N\ when a valid signal is detected at SIN/S\I\N\ and the battery stack being monitored is within specified parameters, (See Datasheet)", 23 ~{SIN} (in) "Differential status input from the IC above. To indicate that the stack is good, SIN must be the same frequency and phase as EIN. See applications circuits for interfacing SIN to the SOUT above.", 24 SIN (in) "Differential status input from the IC above. To indicate that the stack is good, SIN must be the same frequency and phase as EIN. See applications circuits for interfacing SIN to the SOUT above.", 25 ~{EOUT} (out) "A Buffered Version of EIN/E\I\N\. Swings V- to VREG. Must be capacitively coupled to the EIN/E\I\N\ input of the next higher voltage LTC6801 in a stack, or looped to SIN/S\I\N\ of the same chip (pins 23, 24).", 26 EOUT (out) "A Buffered Version of EIN/E\I\N\. Swings V- to VREG. Must be capacitively coupled to the EIN/E\I\N\ input of the next higher voltage LTC6801 in a stack, or looped to SIN/S\I\N\ of the same chip (pins 23, 24).", 27 DC (in) "Duty Cycle Three-Level Input. This pin may be tied to VREG, VREF or V-. The DC pin selects the duty cycle of the monitoring function and has an internal pullup to VREG. See Table 3.", 28 SLTOK (out) "Self Test Logic Output. SLTOK is held HIGH (VREG voltage) upon reset or successful completion of a self test cycle. A LOW output level (V- voltage) indicates the last self test cycle failed.", 29 ~{SLT} (io) "Self Test Open Collector Input/Output. S\L\T\ initiates a self test cycle when it is pulled low externally. When a high to low transition is detected, the next scheduled measurement cycle will be a self test cycle. S\L\T\ (See Datasheet)", 30 CC0 (in) "Cell Count Three-Level input. These pins may be tied to VREG, VREF or V-. CC1 and CC0 select the number of cells attached to the device and each pin has an internal pull-up to VREG.", 31 CC1 (in) "Cell Count Three-Level input. These pins may be tied to VREG, VREF or V-. CC1 and CC0 select the number of cells attached to the device and each pin has an internal pull-up to VREG.", 32 HYST (in) "Hysteresis Three-Level Input. This pin may be tied to VREG, VREF or V-. HYST selects the amount of hysteresis applied to the undervoltage and overvoltage threshold settings and has an internal pull-down to V-.", 33 UV0 (in) "Undervoltage Three-Level input. These pins may be tied to VREG, VREF or V-. UV1 and UV0 select the undervoltage threshold and each pin has an internal pull-up to VREG.", 34 UV1 (in) "Undervoltage Three-Level input. These pins may be tied to VREG, VREF or V-. UV1 and UV0 select the undervoltage threshold and each pin has an internal pull-up to VREG.", 35 OV0 (in) "Overvoltage Three-Level input. These pins may be tied to VREG, VREF or V-. OV1 and OV0 select the overvoltage threshold and each pin has an internal pull-down to V-.", 36 OV1 (in) "Overvoltage Three-Level input. These pins may be tied to VREG, VREF or V-. OV1 and OV0 select the overvoltage threshold and each pin has an internal pull-down to V-."